# EAGLE library part TPS62160QDSGRQ1 (library dc-dc)
Buck Switching Regulator IC Positive Adjustable 0.9V 1 Output 1A 8-WFDFN Exposed Pad
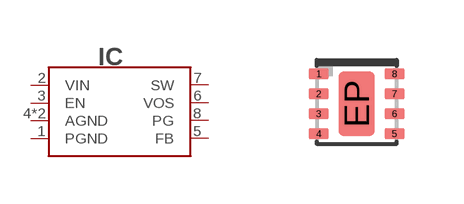
[diagram p27: symbol with the pads of WFDFN-8; footprint WFDFN-8]

Designator prefix IC

## TPS62160QDSGRQ1 (DIGIKEY#: 296-29895-1-ND; MANF: Texas Instruments; MANF#: TPS62160DSGR)  [WFDFN-8]
1  PGND
2  VIN
3  EN
4  AGND
5  FB
6  VOS
7  SW
8  PG
EP  AGND

## Footprint WFDFN-8 (pad centres in mm)
smd 0.5 x 0.25: 1 -0.95,0.75; 2 -0.95,0.25; 3 -0.95,-0.25; 4 -0.95,-0.75; 5 0.95,-0.75; 6 0.95,-0.25; 7 0.95,0.25; 8 0.95,0.75
smd 0.9 x 1.6: EP 0,0